# Altium integrated library Atmel Microcontroller 8-Bit Automotive AVR.IntLib: 187 symbols (part 8 of 9)
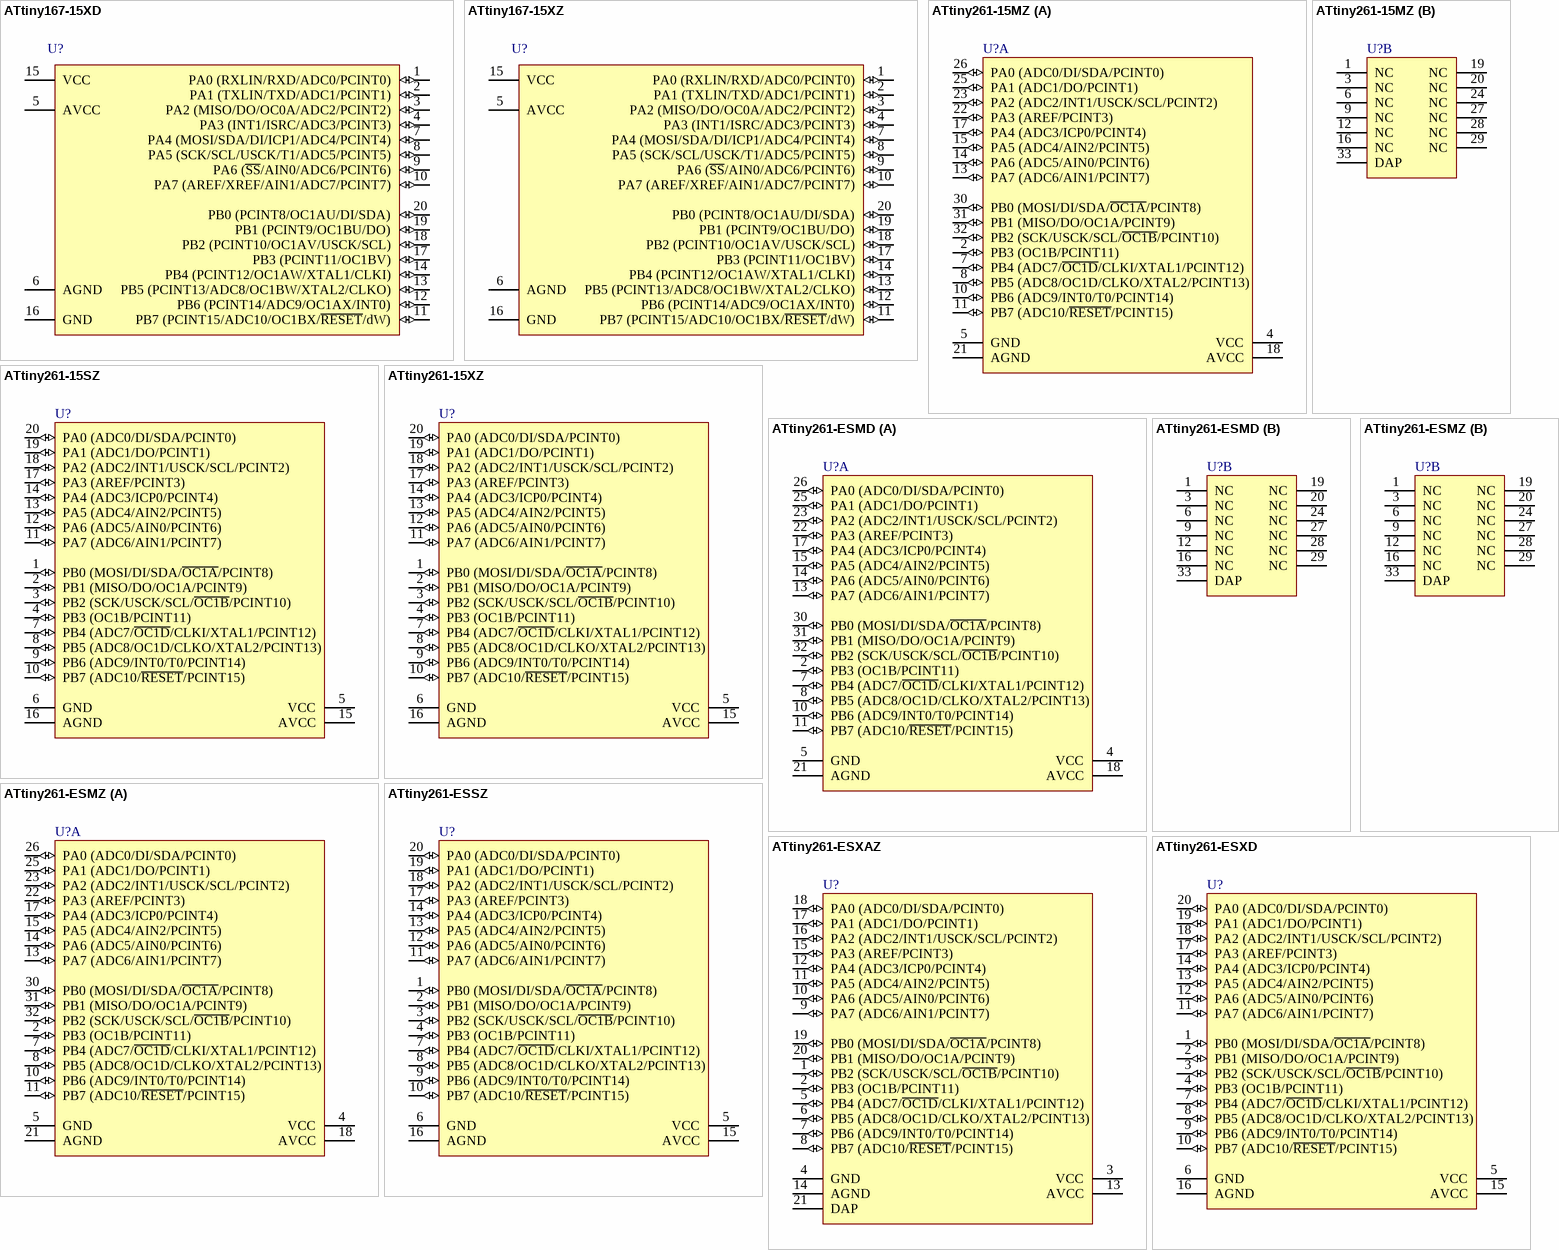
[diagram p28: symbols ATtiny167-15XD to ATtiny261-ESXD]

## ATtiny261-15MZ
designator U?
8-bit Automotive AVR Microcontroller, 2KB Flash, 128 Bytes EEPROM, 128 Bytes SRAM, Automotive Grade (-40°C to +125°C), 32-Pin VQFN; Published: 1-Apr-2010; DatasheetVersion: revD, Nov-2009; PackageVersion: revG, Nov-2008; PackageReference: 32PN; Publisher: Altium Limited; PackageDescription: 32-Pin Quad Flat No-Lead, 5 x 5 mm Body,  0.5 mm Pitch (QFN); Supplier 1: Digi-Key; Supplier Part Number 1: ATTINY261-15MZ-ND; Supplier 2: Mouser; Supplier Part Number 2: 556-ATTINY261-15MZ; Code_JEDEC: MO-220-VHHD-2; ComponentLink1Description: Manufacturer Link; ComponentLink1URL: http://www.atmel.com/products/avr/default.asp?; ComponentLink2Description: ATiny261/461/861 Datasheet; ComponentLink2URL: http://www.atmel.com/dyn/resources/prod_documents/doc7753.pdf; ComponentLink3Description: ATiny261/461/861 Summary; ComponentLink3URL: http://www.atmel.com/dyn/resources/prod_documents/7753S.pdf; ComponentLink4Description: Atmel.com Home; ComponentLink4URL: http://www.atmel.com
footprint 32PN_N (QFN, 32-Leads, Body 5x5mm, Pitch 0.5mm, IPC Medium Density)
footprint 32PN_L (QFN, 32-Leads, Body 5x5mm, Pitch 0.5mm, IPC High Density)
footprint 32PN_M (QFN, 32-Leads, Body 5x5mm, Pitch 0.5mm, IPC Low Density)
part A pins: 2 PB3 (OC1B/PCINT11) (io), 4 VCC (power), 5 GND (power), 7 PB4 (ADC7/~{OC1D}/CLKI/XTAL1/PCINT12) (io), 8 PB5 (ADC8/OC1D/CLKO/XTAL2/PCINT13) (io), 10 PB6 (ADC9/INT0/T0/PCINT14) (io), 11 PB7 (ADC10/~{RESET}/PCINT15) (io), 13 PA7 (ADC6/AIN1/PCINT7) (io), 14 PA6 (ADC5/AIN0/PCINT6) (io), 15 PA5 (ADC4/AIN2/PCINT5) (io), 17 PA4 (ADC3/ICP0/PCINT4) (io), 18 AVCC (power), 21 AGND (power), 22 PA3 (AREF/PCINT3) (io), 23 PA2 (ADC2/INT1/USCK/SCL/PCINT2) (io), 25 PA1 (ADC1/DO/PCINT1) (io), 26 PA0 (ADC0/DI/SDA/PCINT0) (io), 30 PB0 (MOSI/DI/SDA/~{OC1A}/PCINT8) (io), 31 PB1 (MISO/DO/OC1A/PCINT9) (io), 32 PB2 (SCK/USCK/SCL/~{OC1B}/PCINT10) (io)
part B pins: 1 NC, 3 NC, 6 NC, 9 NC, 12 NC, 16 NC, 19 NC, 20 NC, 24 NC, 27 NC, 28 NC, 29 NC, 33 DAP (power)

## ATtiny261-15SZ
designator U?
8-bit Automotive AVR Microcontroller, 2KB Flash, 128 Bytes EEPROM, 128 Bytes SRAM, Automotive Grade (-40°C to +125°C), 20-Pin SOIC; Published: 1-Apr-2010; DatasheetVersion: revD, Nov-2009; PackageVersion: 2009; PackageReference: 20TG; Publisher: Altium Limited; PackageDescription: 20-pin, 0.300” Wide, Plastic Gull-Wing Small Outline (EIAJ SOIC); Supplier 1: Digi-Key; Supplier Part Number 1: ATTINY261-15SZ-ND; Supplier 2: Mouser; Supplier Part Number 2: 556-ATTINY261-15SZ; Code_JEDEC: MS-013-AC; Code_IPC: SOIC127P1030-20; ComponentLink1Description: Manufacturer Link; ComponentLink1URL: http://www.atmel.com/products/avr/default.asp?; ComponentLink2Description: ATiny261/461/861 Datasheet; ComponentLink2URL: http://www.atmel.com/dyn/resources/prod_documents/doc7753.pdf; ComponentLink3Description: ATiny261/461/861 Summary; ComponentLink3URL: http://www.atmel.com/dyn/resources/prod_documents/7753S.pdf; ComponentLink4Description: Atmel.com Home; ComponentLink4URL: http://www.atmel.com
footprint 20TG_N (SOIC, 20-Leads, Body 12.8x7.5mm, Pitch 1.27mm, IPC Medium Density)
footprint 20TG_L (SOIC, 20-Leads, Body 12.8x7.5mm, Pitch 1.27mm, IPC High Density)
footprint 20TG_M (SOIC, 20-Leads, Body 12.8x7.5mm, Pitch 1.27mm, IPC Low Density)
pins: 1 PB0 (MOSI/DI/SDA/~{OC1A}/PCINT8) (io), 2 PB1 (MISO/DO/OC1A/PCINT9) (io), 3 PB2 (SCK/USCK/SCL/~{OC1B}/PCINT10) (io), 4 PB3 (OC1B/PCINT11) (io), 5 VCC (power), 6 GND (power), 7 PB4 (ADC7/~{OC1D}/CLKI/XTAL1/PCINT12) (io), 8 PB5 (ADC8/OC1D/CLKO/XTAL2/PCINT13) (io), 9 PB6 (ADC9/INT0/T0/PCINT14) (io), 10 PB7 (ADC10/~{RESET}/PCINT15) (io), 11 PA7 (ADC6/AIN1/PCINT7) (io), 12 PA6 (ADC5/AIN0/PCINT6) (io), 13 PA5 (ADC4/AIN2/PCINT5) (io), 14 PA4 (ADC3/ICP0/PCINT4) (io), 15 AVCC (power), 16 AGND (power), 17 PA3 (AREF/PCINT3) (io), 18 PA2 (ADC2/INT1/USCK/SCL/PCINT2) (io), 19 PA1 (ADC1/DO/PCINT1) (io), 20 PA0 (ADC0/DI/SDA/PCINT0) (io)

## ATtiny261-15XZ
designator U?
8-bit Automotive AVR Microcontroller, 2KB Flash, 128 Bytes EEPROM, 128 Bytes SRAM, Automotive Grade (-40°C to +125°C), 20-Pin TSSOP; Published: 1-Apr-2010; DatasheetVersion: revD, Nov-2009; PackageVersion: revA, Dec-2007; PackageReference: 6G; Publisher: Altium Limited; PackageDescription: 20-Lead, 4.4 x 6.5 mm Body, 0.65 mm Pitch, Lead Length: 0.6 mm, Thin Shrink Small Outline Package (TSSOP); Supplier 1: Digi-Key; Supplier Part Number 1: ATTINY261-15XZ-ND; Supplier 2: Mouser; Supplier Part Number 2: 556-ATTINY261-15XZ; Code_JEDEC: MO-153-AC; ComponentLink1Description: Manufacturer Link; ComponentLink1URL: http://www.atmel.com/products/avr/default.asp?; ComponentLink2Description: ATiny261/461/861 Datasheet; ComponentLink2URL: http://www.atmel.com/dyn/resources/prod_documents/doc7753.pdf; ComponentLink3Description: ATiny261/461/861 Summary; ComponentLink3URL: http://www.atmel.com/dyn/resources/prod_documents/7753S.pdf; ComponentLink4Description: Atmel.com Home; ComponentLink4URL: http://www.atmel.com
footprint 6G_N (TSOP, 20-Leads, Body 6.5x4.4mm, Pitch 0.65mm, IPC Medium Density)
footprint 6G_L (TSOP, 20-Leads, Body 6.5x4.4mm, Pitch 0.65mm, IPC High Density)
footprint 6G_M (TSOP, 20-Leads, Body 6.5x4.4mm, Pitch 0.65mm, IPC Low Density)
pins: 1 PB0 (MOSI/DI/SDA/~{OC1A}/PCINT8) (io), 2 PB1 (MISO/DO/OC1A/PCINT9) (io), 3 PB2 (SCK/USCK/SCL/~{OC1B}/PCINT10) (io), 4 PB3 (OC1B/PCINT11) (io), 5 VCC (power), 6 GND (power), 7 PB4 (ADC7/~{OC1D}/CLKI/XTAL1/PCINT12) (io), 8 PB5 (ADC8/OC1D/CLKO/XTAL2/PCINT13) (io), 9 PB6 (ADC9/INT0/T0/PCINT14) (io), 10 PB7 (ADC10/~{RESET}/PCINT15) (io), 11 PA7 (ADC6/AIN1/PCINT7) (io), 12 PA6 (ADC5/AIN0/PCINT6) (io), 13 PA5 (ADC4/AIN2/PCINT5) (io), 14 PA4 (ADC3/ICP0/PCINT4) (io), 15 AVCC (power), 16 AGND (power), 17 PA3 (AREF/PCINT3) (io), 18 PA2 (ADC2/INT1/USCK/SCL/PCINT2) (io), 19 PA1 (ADC1/DO/PCINT1) (io), 20 PA0 (ADC0/DI/SDA/PCINT0) (io)

## ATtiny261-ESMD
designator U?
8-bit Automotive AVR Microcontroller, 2KB Flash, 128 Bytes EEPROM, 128 Bytes SRAM, Extended Grade (-40°C to +150°C), 32-Pin VQFN; Published: 1-Apr-2010; DatasheetVersion: revD, Nov-2009; PackageVersion: revG, Nov-2008; PackageReference: 32PN; Publisher: Altium Limited; PackageDescription: 32-Pin Quad Flat No-Lead, 5 x 5 mm Body,  0.5 mm Pitch (QFN); Code_JEDEC: MO-220-VHHD-2; ComponentLink1Description: Manufacturer Link; ComponentLink1URL: http://www.atmel.com/products/avr/default.asp?; ComponentLink2Description: ATiny261/461/861 Datasheet; ComponentLink2URL: http://www.atmel.com/dyn/resources/prod_documents/doc7753.pdf; ComponentLink3Description: ATiny261/461/861 Summary; ComponentLink3URL: http://www.atmel.com/dyn/resources/prod_documents/7753S.pdf; ComponentLink4Description: ATiny261/461/861 Appendix; ComponentLink4URL: http://www.atmel.com/dyn/resources/prod_documents/doc7793.pdf; ComponentLink5Description: Atmel.com Home; ComponentLink5URL: http://www.atmel.com
footprint 32PN_N (QFN, 32-Leads, Body 5x5mm, Pitch 0.5mm, IPC Medium Density)
footprint 32PN_L (QFN, 32-Leads, Body 5x5mm, Pitch 0.5mm, IPC High Density)
footprint 32PN_M (QFN, 32-Leads, Body 5x5mm, Pitch 0.5mm, IPC Low Density)
part A pins: 2 PB3 (OC1B/PCINT11) (io), 4 VCC (power), 5 GND (power), 7 PB4 (ADC7/~{OC1D}/CLKI/XTAL1/PCINT12) (io), 8 PB5 (ADC8/OC1D/CLKO/XTAL2/PCINT13) (io), 10 PB6 (ADC9/INT0/T0/PCINT14) (io), 11 PB7 (ADC10/~{RESET}/PCINT15) (io), 13 PA7 (ADC6/AIN1/PCINT7) (io), 14 PA6 (ADC5/AIN0/PCINT6) (io), 15 PA5 (ADC4/AIN2/PCINT5) (io), 17 PA4 (ADC3/ICP0/PCINT4) (io), 18 AVCC (power), 21 AGND (power), 22 PA3 (AREF/PCINT3) (io), 23 PA2 (ADC2/INT1/USCK/SCL/PCINT2) (io), 25 PA1 (ADC1/DO/PCINT1) (io), 26 PA0 (ADC0/DI/SDA/PCINT0) (io), 30 PB0 (MOSI/DI/SDA/~{OC1A}/PCINT8) (io), 31 PB1 (MISO/DO/OC1A/PCINT9) (io), 32 PB2 (SCK/USCK/SCL/~{OC1B}/PCINT10) (io)
part B pins: 1 NC, 3 NC, 6 NC, 9 NC, 12 NC, 16 NC, 19 NC, 20 NC, 24 NC, 27 NC, 28 NC, 29 NC, 33 DAP (power)

## ATtiny261-ESMZ
designator U?
8-bit Automotive AVR Microcontroller, 2KB Flash, 128 Bytes EEPROM, 128 Bytes SRAM, Automotive Grade (-40°C to +125°C), 32-Pin VQFN, Engineering Sample; Published: 1-Apr-2010; DatasheetVersion: revD, Nov-2009; PackageVersion: revG, Nov-2008; PackageReference: 32PN; Publisher: Altium Limited; PackageDescription: 32-Pin Quad Flat No-Lead, 5 x 5 mm Body,  0.5 mm Pitch (QFN); Code_JEDEC: MO-220-VHHD-2; ComponentLink1Description: Manufacturer Link; ComponentLink1URL: http://www.atmel.com/products/avr/default.asp?; ComponentLink2Description: ATiny261/461/861 Datasheet; ComponentLink2URL: http://www.atmel.com/dyn/resources/prod_documents/doc7753.pdf; ComponentLink3Description: ATiny261/461/861 Summary; ComponentLink3URL: http://www.atmel.com/dyn/resources/prod_documents/7753S.pdf; ComponentLink4Description: Atmel.com Home; ComponentLink4URL: http://www.atmel.com
footprint 32PN_N (QFN, 32-Leads, Body 5x5mm, Pitch 0.5mm, IPC Medium Density)
footprint 32PN_L (QFN, 32-Leads, Body 5x5mm, Pitch 0.5mm, IPC High Density)
footprint 32PN_M (QFN, 32-Leads, Body 5x5mm, Pitch 0.5mm, IPC Low Density)
part A pins: 2 PB3 (OC1B/PCINT11) (io), 4 VCC (power), 5 GND (power), 7 PB4 (ADC7/~{OC1D}/CLKI/XTAL1/PCINT12) (io), 8 PB5 (ADC8/OC1D/CLKO/XTAL2/PCINT13) (io), 10 PB6 (ADC9/INT0/T0/PCINT14) (io), 11 PB7 (ADC10/~{RESET}/PCINT15) (io), 13 PA7 (ADC6/AIN1/PCINT7) (io), 14 PA6 (ADC5/AIN0/PCINT6) (io), 15 PA5 (ADC4/AIN2/PCINT5) (io), 17 PA4 (ADC3/ICP0/PCINT4) (io), 18 AVCC (power), 21 AGND (power), 22 PA3 (AREF/PCINT3) (io), 23 PA2 (ADC2/INT1/USCK/SCL/PCINT2) (io), 25 PA1 (ADC1/DO/PCINT1) (io), 26 PA0 (ADC0/DI/SDA/PCINT0) (io), 30 PB0 (MOSI/DI/SDA/~{OC1A}/PCINT8) (io), 31 PB1 (MISO/DO/OC1A/PCINT9) (io), 32 PB2 (SCK/USCK/SCL/~{OC1B}/PCINT10) (io)
part B pins: 1 NC, 3 NC, 6 NC, 9 NC, 12 NC, 16 NC, 19 NC, 20 NC, 24 NC, 27 NC, 28 NC, 29 NC, 33 DAP (power)

## ATtiny261-ESSZ
designator U?
8-bit Automotive AVR Microcontroller, 2KB Flash, 128 Bytes EEPROM, 128 Bytes SRAM, Automotive Grade (-40°C to +125°C), 20-Pin SOIC, Engineering Sample; Published: 1-Apr-2010; DatasheetVersion: revD, Nov-2009; PackageVersion: 2009; PackageReference: 20TG; Publisher: Altium Limited; PackageDescription: 20-pin, 0.300” Wide, Plastic Gull-Wing Small Outline (EIAJ SOIC); Code_JEDEC: MS-013-AC; Code_IPC: SOIC127P1030-20; ComponentLink1Description: Manufacturer Link; ComponentLink1URL: http://www.atmel.com/products/avr/default.asp?; ComponentLink2Description: ATiny261/461/861 Datasheet; ComponentLink2URL: http://www.atmel.com/dyn/resources/prod_documents/doc7753.pdf; ComponentLink3Description: ATiny261/461/861 Summary; ComponentLink3URL: http://www.atmel.com/dyn/resources/prod_documents/7753S.pdf; ComponentLink4Description: Atmel.com Home; ComponentLink4URL: http://www.atmel.com
footprint 20TG_N (SOIC, 20-Leads, Body 12.8x7.5mm, Pitch 1.27mm, IPC Medium Density)
footprint 20TG_L (SOIC, 20-Leads, Body 12.8x7.5mm, Pitch 1.27mm, IPC High Density)
footprint 20TG_M (SOIC, 20-Leads, Body 12.8x7.5mm, Pitch 1.27mm, IPC Low Density)
pins: 1 PB0 (MOSI/DI/SDA/~{OC1A}/PCINT8) (io), 2 PB1 (MISO/DO/OC1A/PCINT9) (io), 3 PB2 (SCK/USCK/SCL/~{OC1B}/PCINT10) (io), 4 PB3 (OC1B/PCINT11) (io), 5 VCC (power), 6 GND (power), 7 PB4 (ADC7/~{OC1D}/CLKI/XTAL1/PCINT12) (io), 8 PB5 (ADC8/OC1D/CLKO/XTAL2/PCINT13) (io), 9 PB6 (ADC9/INT0/T0/PCINT14) (io), 10 PB7 (ADC10/~{RESET}/PCINT15) (io), 11 PA7 (ADC6/AIN1/PCINT7) (io), 12 PA6 (ADC5/AIN0/PCINT6) (io), 13 PA5 (ADC4/AIN2/PCINT5) (io), 14 PA4 (ADC3/ICP0/PCINT4) (io), 15 AVCC (power), 16 AGND (power), 17 PA3 (AREF/PCINT3) (io), 18 PA2 (ADC2/INT1/USCK/SCL/PCINT2) (io), 19 PA1 (ADC1/DO/PCINT1) (io), 20 PA0 (ADC0/DI/SDA/PCINT0) (io)

## ATtiny261-ESXAZ
designator U?
8-bit Automotive AVR Microcontroller, 2KB Flash, 128 Bytes EEPROM, 128 Bytes SRAM, Automotive Grade (-40°C to +125°C), 20-Pin QFN, Engineering Sample; Published: 1-Apr-2010; DatasheetVersion: revD, Nov-2009; PackageVersion: revG, Jul-2007; PackageReference: 20PC; Publisher: Altium Limited; PackageDescription: 20-Lead, 4 x 4 x 0.8 mm Body, 0.50 mm Pitch, Quad Flat No-Lead Package (QFN); Code_JEDEC: MO-220WGGD-5; ComponentLink1Description: Manufacturer Link; ComponentLink1URL: http://www.atmel.com/products/avr/default.asp?; ComponentLink2Description: ATiny261/461/861 Datasheet; ComponentLink2URL: http://www.atmel.com/dyn/resources/prod_documents/doc7753.pdf; ComponentLink3Description: Atmel.com Home; ComponentLink3URL: http://www.atmel.com
footprint 20PC_N (QFN, 20-Leads, Body 4x4mm, Pitch 0.5mm, IPC Medium Density)
footprint 20PC_L (QFN, 20-Leads, Body 4x4mm, Pitch 0.5mm, IPC High Density)
footprint 20PC_M (QFN, 20-Leads, Body 4x4mm, Pitch 0.5mm, IPC Low Density)
pins: 1 PB2 (SCK/USCK/SCL/~{OC1B}/PCINT10) (io), 2 PB3 (OC1B/PCINT11) (io), 3 VCC (power), 4 GND (power), 5 PB4 (ADC7/~{OC1D}/CLKI/XTAL1/PCINT12) (io), 6 PB5 (ADC8/OC1D/CLKO/XTAL2/PCINT13) (io), 7 PB6 (ADC9/INT0/T0/PCINT14) (io), 8 PB7 (ADC10/~{RESET}/PCINT15) (io), 9 PA7 (ADC6/AIN1/PCINT7) (io), 10 PA6 (ADC5/AIN0/PCINT6) (io), 11 PA5 (ADC4/AIN2/PCINT5) (io), 12 PA4 (ADC3/ICP0/PCINT4) (io), 13 AVCC (power), 14 AGND (power), 15 PA3 (AREF/PCINT3) (io), 16 PA2 (ADC2/INT1/USCK/SCL/PCINT2) (io), 17 PA1 (ADC1/DO/PCINT1) (io), 18 PA0 (ADC0/DI/SDA/PCINT0) (io), 19 PB0 (MOSI/DI/SDA/~{OC1A}/PCINT8) (io), 20 PB1 (MISO/DO/OC1A/PCINT9) (io), 21 DAP (power)

## ATtiny261-ESXD
designator U?
8-bit Automotive AVR Microcontroller, 2KB Flash, 128 Bytes EEPROM, 128 Bytes SRAM, Extended Grade (-40°C to +150°C), 20-Pin TSSOP; Published: 1-Apr-2010; DatasheetVersion: revD, Nov-2009; PackageVersion: revA, Dec-2007; PackageReference: 6G; Publisher: Altium Limited; PackageDescription: 20-Lead, 4.4 x 6.5 mm Body, 0.65 mm Pitch, Lead Length: 0.6 mm, Thin Shrink Small Outline Package (TSSOP); Code_JEDEC: MO-153-AC; ComponentLink1Description: Manufacturer Link; ComponentLink1URL: http://www.atmel.com/products/avr/default.asp?; ComponentLink2Description: ATiny261/461/861 Datasheet; ComponentLink2URL: http://www.atmel.com/dyn/resources/prod_documents/doc7753.pdf; ComponentLink3Description: ATiny261/461/861 Summary; ComponentLink3URL: http://www.atmel.com/dyn/resources/prod_documents/7753S.pdf; ComponentLink4Description: ATiny261/461/861 Appendix; ComponentLink4URL: http://www.atmel.com/dyn/resources/prod_documents/doc7793.pdf; ComponentLink5Description: Atmel.com Home; ComponentLink5URL: http://www.atmel.com
footprint 6G_N (TSOP, 20-Leads, Body 6.5x4.4mm, Pitch 0.65mm, IPC Medium Density)
footprint 6G_L (TSOP, 20-Leads, Body 6.5x4.4mm, Pitch 0.65mm, IPC High Density)
footprint 6G_M (TSOP, 20-Leads, Body 6.5x4.4mm, Pitch 0.65mm, IPC Low Density)
pins: 1 PB0 (MOSI/DI/SDA/~{OC1A}/PCINT8) (io), 2 PB1 (MISO/DO/OC1A/PCINT9) (io), 3 PB2 (SCK/USCK/SCL/~{OC1B}/PCINT10) (io), 4 PB3 (OC1B/PCINT11) (io), 5 VCC (power), 6 GND (power), 7 PB4 (ADC7/~{OC1D}/CLKI/XTAL1/PCINT12) (io), 8 PB5 (ADC8/OC1D/CLKO/XTAL2/PCINT13) (io), 9 PB6 (ADC9/INT0/T0/PCINT14) (io), 10 PB7 (ADC10/~{RESET}/PCINT15) (io), 11 PA7 (ADC6/AIN1/PCINT7) (io), 12 PA6 (ADC5/AIN0/PCINT6) (io), 13 PA5 (ADC4/AIN2/PCINT5) (io), 14 PA4 (ADC3/ICP0/PCINT4) (io), 15 AVCC (power), 16 AGND (power), 17 PA3 (AREF/PCINT3) (io), 18 PA2 (ADC2/INT1/USCK/SCL/PCINT2) (io), 19 PA1 (ADC1/DO/PCINT1) (io), 20 PA0 (ADC0/DI/SDA/PCINT0) (io)

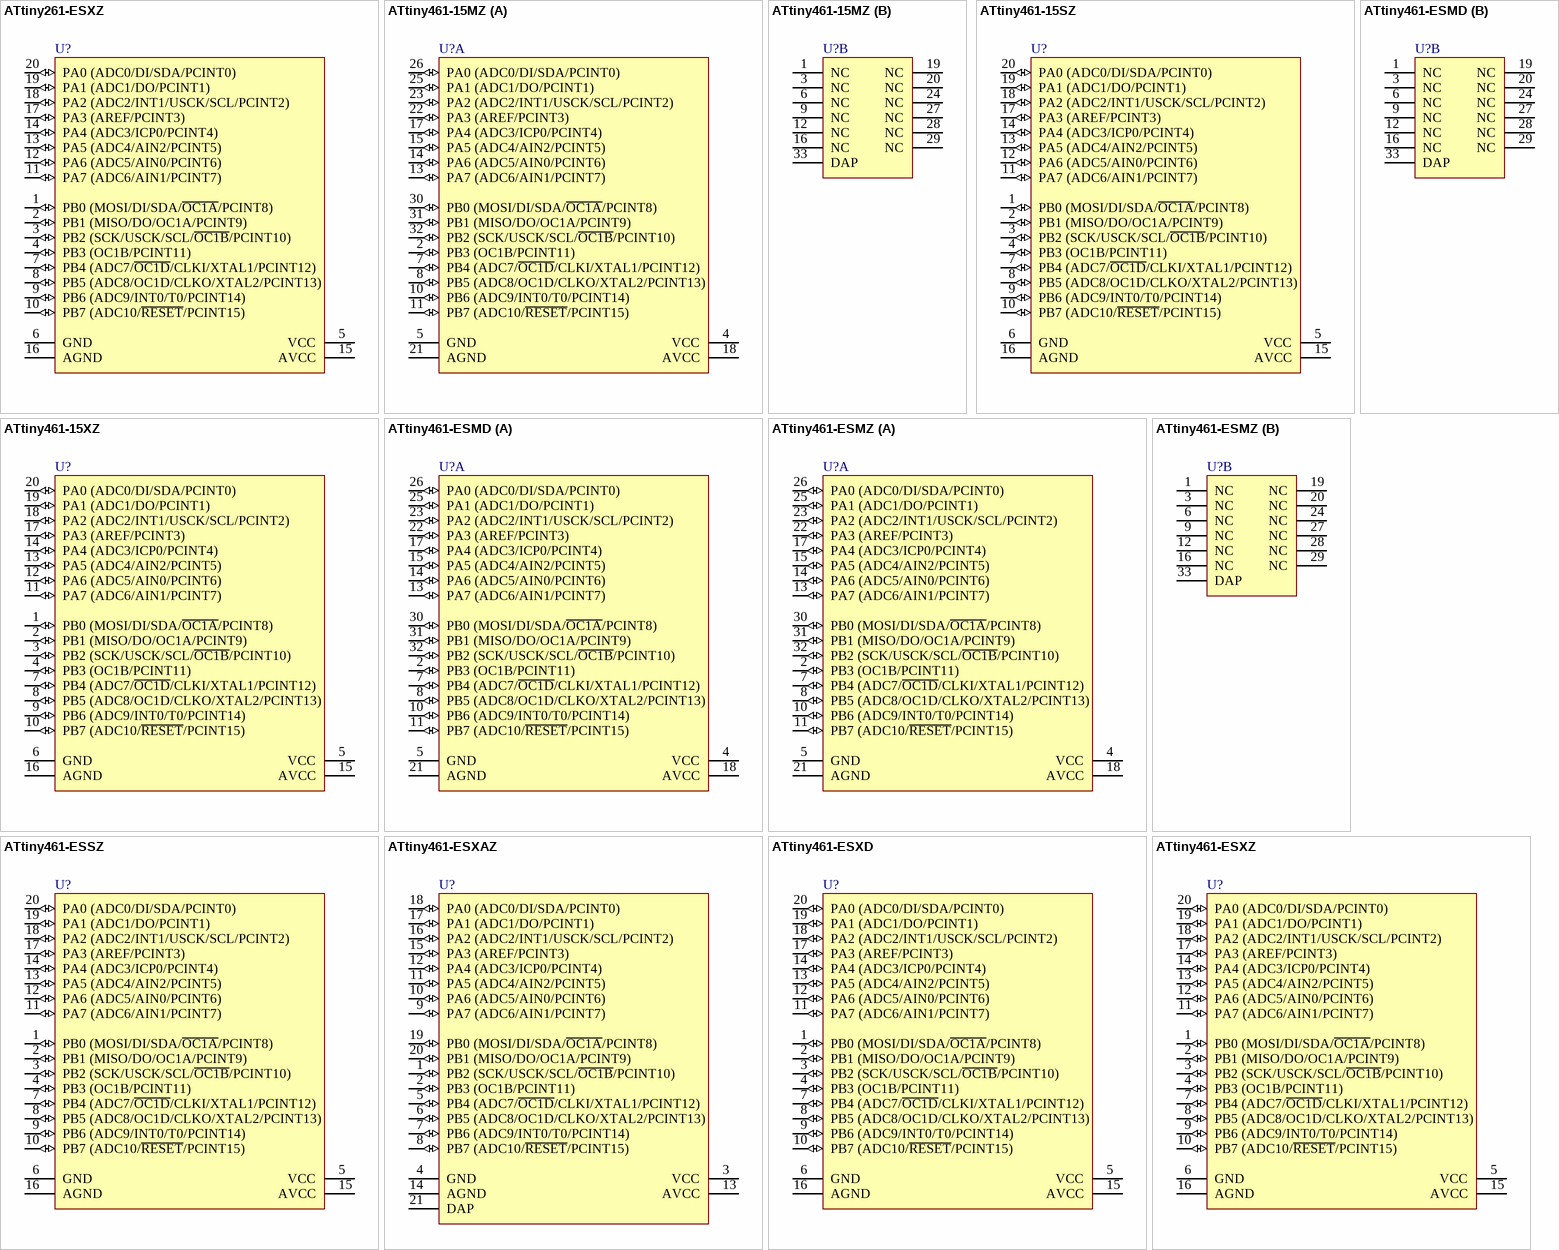
[diagram p20: symbols ATtiny261-ESXZ to ATtiny461-ESXZ]

## ATtiny261-ESXZ
designator U?
8-bit Automotive AVR Microcontroller, 2KB Flash, 128 Bytes EEPROM, 128 Bytes SRAM, Automotive Grade (-40°C to +125°C), 20-Pin TSSOP, Engineering Sample; Published: 1-Apr-2010; DatasheetVersion: revD, Nov-2009; PackageVersion: revA, Dec-2007; PackageReference: 6G; Publisher: Altium Limited; PackageDescription: 20-Lead, 4.4 x 6.5 mm Body, 0.65 mm Pitch, Lead Length: 0.6 mm, Thin Shrink Small Outline Package (TSSOP); Code_JEDEC: MO-153-AC; ComponentLink1Description: Manufacturer Link; ComponentLink1URL: http://www.atmel.com/products/avr/default.asp?; ComponentLink2Description: ATiny261/461/861 Datasheet; ComponentLink2URL: http://www.atmel.com/dyn/resources/prod_documents/doc7753.pdf; ComponentLink3Description: ATiny261/461/861 Summary; ComponentLink3URL: http://www.atmel.com/dyn/resources/prod_documents/7753S.pdf; ComponentLink4Description: Atmel.com Home; ComponentLink4URL: http://www.atmel.com
footprint 6G_N (TSOP, 20-Leads, Body 6.5x4.4mm, Pitch 0.65mm, IPC Medium Density)
footprint 6G_L (TSOP, 20-Leads, Body 6.5x4.4mm, Pitch 0.65mm, IPC High Density)
footprint 6G_M (TSOP, 20-Leads, Body 6.5x4.4mm, Pitch 0.65mm, IPC Low Density)
pins: 1 PB0 (MOSI/DI/SDA/~{OC1A}/PCINT8) (io), 2 PB1 (MISO/DO/OC1A/PCINT9) (io), 3 PB2 (SCK/USCK/SCL/~{OC1B}/PCINT10) (io), 4 PB3 (OC1B/PCINT11) (io), 5 VCC (power), 6 GND (power), 7 PB4 (ADC7/~{OC1D}/CLKI/XTAL1/PCINT12) (io), 8 PB5 (ADC8/OC1D/CLKO/XTAL2/PCINT13) (io), 9 PB6 (ADC9/INT0/T0/PCINT14) (io), 10 PB7 (ADC10/~{RESET}/PCINT15) (io), 11 PA7 (ADC6/AIN1/PCINT7) (io), 12 PA6 (ADC5/AIN0/PCINT6) (io), 13 PA5 (ADC4/AIN2/PCINT5) (io), 14 PA4 (ADC3/ICP0/PCINT4) (io), 15 AVCC (power), 16 AGND (power), 17 PA3 (AREF/PCINT3) (io), 18 PA2 (ADC2/INT1/USCK/SCL/PCINT2) (io), 19 PA1 (ADC1/DO/PCINT1) (io), 20 PA0 (ADC0/DI/SDA/PCINT0) (io)

## ATtiny461-15MZ
designator U?
8-bit Automotive AVR Microcontroller, 4KB Flash, 256 Bytes EEPROM, 256 Bytes SRAM, Automotive Grade (-40°C to +125°C), 32-Pin VQFN; Published: 1-Apr-2010; DatasheetVersion: revD, Nov-2009; PackageVersion: revG, Nov-2008; PackageReference: 32PN; Publisher: Altium Limited; PackageDescription: 32-Pin Quad Flat No-Lead, 5 x 5 mm Body,  0.5 mm Pitch (QFN); Supplier 1: Digi-Key; Supplier Part Number 1: ATTINY461-15MZ-ND; Supplier 2: Mouser; Supplier Part Number 2: 556-ATTINY461-15MZ; Code_JEDEC: MO-220-VHHD-2; ComponentLink1Description: Manufacturer Link; ComponentLink1URL: http://www.atmel.com/products/avr/default.asp?; ComponentLink2Description: ATiny261/461/861 Datasheet; ComponentLink2URL: http://www.atmel.com/dyn/resources/prod_documents/doc7753.pdf; ComponentLink3Description: ATiny261/461/861 Summary; ComponentLink3URL: http://www.atmel.com/dyn/resources/prod_documents/7753S.pdf; ComponentLink4Description: Atmel.com Home; ComponentLink4URL: http://www.atmel.com
footprint 32PN_N (QFN, 32-Leads, Body 5x5mm, Pitch 0.5mm, IPC Medium Density)
footprint 32PN_L (QFN, 32-Leads, Body 5x5mm, Pitch 0.5mm, IPC High Density)
footprint 32PN_M (QFN, 32-Leads, Body 5x5mm, Pitch 0.5mm, IPC Low Density)
part A pins: 2 PB3 (OC1B/PCINT11) (io), 4 VCC (power), 5 GND (power), 7 PB4 (ADC7/~{OC1D}/CLKI/XTAL1/PCINT12) (io), 8 PB5 (ADC8/OC1D/CLKO/XTAL2/PCINT13) (io), 10 PB6 (ADC9/INT0/T0/PCINT14) (io), 11 PB7 (ADC10/~{RESET}/PCINT15) (io), 13 PA7 (ADC6/AIN1/PCINT7) (io), 14 PA6 (ADC5/AIN0/PCINT6) (io), 15 PA5 (ADC4/AIN2/PCINT5) (io), 17 PA4 (ADC3/ICP0/PCINT4) (io), 18 AVCC (power), 21 AGND (power), 22 PA3 (AREF/PCINT3) (io), 23 PA2 (ADC2/INT1/USCK/SCL/PCINT2) (io), 25 PA1 (ADC1/DO/PCINT1) (io), 26 PA0 (ADC0/DI/SDA/PCINT0) (io), 30 PB0 (MOSI/DI/SDA/~{OC1A}/PCINT8) (io), 31 PB1 (MISO/DO/OC1A/PCINT9) (io), 32 PB2 (SCK/USCK/SCL/~{OC1B}/PCINT10) (io)
part B pins: 1 NC, 3 NC, 6 NC, 9 NC, 12 NC, 16 NC, 19 NC, 20 NC, 24 NC, 27 NC, 28 NC, 29 NC, 33 DAP (power)

## ATtiny461-15SZ
designator U?
8-bit Automotive AVR Microcontroller, 4KB Flash, 256 Bytes EEPROM, 256 Bytes SRAM, Automotive Grade (-40°C to +125°C), 20-Pin SOIC; Published: 1-Apr-2010; DatasheetVersion: revD, Nov-2009; PackageVersion: 2009; PackageReference: 20TG; Publisher: Altium Limited; PackageDescription: 20-pin, 0.300” Wide, Plastic Gull-Wing Small Outline (EIAJ SOIC); Supplier 1: Digi-Key; Supplier Part Number 1: ATTINY461-15SZ-ND; Supplier 2: Mouser; Supplier Part Number 2: 556-ATTINY461-15SZ; Code_JEDEC: MS-013-AC; Code_IPC: SOIC127P1030-20; ComponentLink1Description: Manufacturer Link; ComponentLink1URL: http://www.atmel.com/products/avr/default.asp?; ComponentLink2Description: ATiny261/461/861 Datasheet; ComponentLink2URL: http://www.atmel.com/dyn/resources/prod_documents/doc7753.pdf; ComponentLink3Description: ATiny261/461/861 Summary; ComponentLink3URL: http://www.atmel.com/dyn/resources/prod_documents/7753S.pdf; ComponentLink4Description: Atmel.com Home; ComponentLink4URL: http://www.atmel.com
footprint 20TG_N (SOIC, 20-Leads, Body 12.8x7.5mm, Pitch 1.27mm, IPC Medium Density)
footprint 20TG_L (SOIC, 20-Leads, Body 12.8x7.5mm, Pitch 1.27mm, IPC High Density)
footprint 20TG_M (SOIC, 20-Leads, Body 12.8x7.5mm, Pitch 1.27mm, IPC Low Density)
pins: 1 PB0 (MOSI/DI/SDA/~{OC1A}/PCINT8) (io), 2 PB1 (MISO/DO/OC1A/PCINT9) (io), 3 PB2 (SCK/USCK/SCL/~{OC1B}/PCINT10) (io), 4 PB3 (OC1B/PCINT11) (io), 5 VCC (power), 6 GND (power), 7 PB4 (ADC7/~{OC1D}/CLKI/XTAL1/PCINT12) (io), 8 PB5 (ADC8/OC1D/CLKO/XTAL2/PCINT13) (io), 9 PB6 (ADC9/INT0/T0/PCINT14) (io), 10 PB7 (ADC10/~{RESET}/PCINT15) (io), 11 PA7 (ADC6/AIN1/PCINT7) (io), 12 PA6 (ADC5/AIN0/PCINT6) (io), 13 PA5 (ADC4/AIN2/PCINT5) (io), 14 PA4 (ADC3/ICP0/PCINT4) (io), 15 AVCC (power), 16 AGND (power), 17 PA3 (AREF/PCINT3) (io), 18 PA2 (ADC2/INT1/USCK/SCL/PCINT2) (io), 19 PA1 (ADC1/DO/PCINT1) (io), 20 PA0 (ADC0/DI/SDA/PCINT0) (io)

## ATtiny461-15XZ
designator U?
8-bit Automotive AVR Microcontroller, 4KB Flash, 256 Bytes EEPROM, 256 Bytes SRAM, Automotive Grade (-40°C to +125°C), 20-Pin TSSOP; Published: 1-Apr-2010; DatasheetVersion: revD, Nov-2009; PackageVersion: revA, Dec-2007; PackageReference: 6G; Publisher: Altium Limited; PackageDescription: 20-Lead, 4.4 x 6.5 mm Body, 0.65 mm Pitch, Lead Length: 0.6 mm, Thin Shrink Small Outline Package (TSSOP); Supplier 1: Digi-Key; Supplier Part Number 1: ATTINY461-15XZ-ND; Supplier 2: Mouser; Supplier Part Number 2: 556-ATTINY461-15XZ; Code_JEDEC: MO-153-AC; ComponentLink1Description: Manufacturer Link; ComponentLink1URL: http://www.atmel.com/products/avr/default.asp?; ComponentLink2Description: ATiny261/461/861 Datasheet; ComponentLink2URL: http://www.atmel.com/dyn/resources/prod_documents/doc7753.pdf; ComponentLink3Description: ATiny261/461/861 Summary; ComponentLink3URL: http://www.atmel.com/dyn/resources/prod_documents/7753S.pdf; ComponentLink4Description: Atmel.com Home; ComponentLink4URL: http://www.atmel.com
footprint 6G_N (TSOP, 20-Leads, Body 6.5x4.4mm, Pitch 0.65mm, IPC Medium Density)
footprint 6G_L (TSOP, 20-Leads, Body 6.5x4.4mm, Pitch 0.65mm, IPC High Density)
footprint 6G_M (TSOP, 20-Leads, Body 6.5x4.4mm, Pitch 0.65mm, IPC Low Density)
pins: 1 PB0 (MOSI/DI/SDA/~{OC1A}/PCINT8) (io), 2 PB1 (MISO/DO/OC1A/PCINT9) (io), 3 PB2 (SCK/USCK/SCL/~{OC1B}/PCINT10) (io), 4 PB3 (OC1B/PCINT11) (io), 5 VCC (power), 6 GND (power), 7 PB4 (ADC7/~{OC1D}/CLKI/XTAL1/PCINT12) (io), 8 PB5 (ADC8/OC1D/CLKO/XTAL2/PCINT13) (io), 9 PB6 (ADC9/INT0/T0/PCINT14) (io), 10 PB7 (ADC10/~{RESET}/PCINT15) (io), 11 PA7 (ADC6/AIN1/PCINT7) (io), 12 PA6 (ADC5/AIN0/PCINT6) (io), 13 PA5 (ADC4/AIN2/PCINT5) (io), 14 PA4 (ADC3/ICP0/PCINT4) (io), 15 AVCC (power), 16 AGND (power), 17 PA3 (AREF/PCINT3) (io), 18 PA2 (ADC2/INT1/USCK/SCL/PCINT2) (io), 19 PA1 (ADC1/DO/PCINT1) (io), 20 PA0 (ADC0/DI/SDA/PCINT0) (io)

## ATtiny461-ESMD
designator U?
8-bit Automotive AVR Microcontroller, 4KB Flash, 256 Bytes EEPROM, 256 Bytes SRAM, Extended Grade (-40°C to +150°C), 32-Pin VQFN; Published: 1-Apr-2010; DatasheetVersion: revD, Nov-2009; PackageVersion: revG, Nov-2008; PackageReference: 32PN; Publisher: Altium Limited; PackageDescription: 32-Pin Quad Flat No-Lead, 5 x 5 mm Body,  0.5 mm Pitch (QFN); Code_JEDEC: MO-220-VHHD-2; ComponentLink1Description: Manufacturer Link; ComponentLink1URL: http://www.atmel.com/products/avr/default.asp?; ComponentLink2Description: ATiny261/461/861 Datasheet; ComponentLink2URL: http://www.atmel.com/dyn/resources/prod_documents/doc7753.pdf; ComponentLink3Description: ATiny261/461/861 Summary; ComponentLink3URL: http://www.atmel.com/dyn/resources/prod_documents/7753S.pdf; ComponentLink4Description: ATiny261/461/861 Appendix; ComponentLink4URL: http://www.atmel.com/dyn/resources/prod_documents/doc7793.pdf; ComponentLink5Description: Atmel.com Home; ComponentLink5URL: http://www.atmel.com
footprint 32PN_N (QFN, 32-Leads, Body 5x5mm, Pitch 0.5mm, IPC Medium Density)
footprint 32PN_L (QFN, 32-Leads, Body 5x5mm, Pitch 0.5mm, IPC High Density)
footprint 32PN_M (QFN, 32-Leads, Body 5x5mm, Pitch 0.5mm, IPC Low Density)
part A pins: 2 PB3 (OC1B/PCINT11) (io), 4 VCC (power), 5 GND (power), 7 PB4 (ADC7/~{OC1D}/CLKI/XTAL1/PCINT12) (io), 8 PB5 (ADC8/OC1D/CLKO/XTAL2/PCINT13) (io), 10 PB6 (ADC9/INT0/T0/PCINT14) (io), 11 PB7 (ADC10/~{RESET}/PCINT15) (io), 13 PA7 (ADC6/AIN1/PCINT7) (io), 14 PA6 (ADC5/AIN0/PCINT6) (io), 15 PA5 (ADC4/AIN2/PCINT5) (io), 17 PA4 (ADC3/ICP0/PCINT4) (io), 18 AVCC (power), 21 AGND (power), 22 PA3 (AREF/PCINT3) (io), 23 PA2 (ADC2/INT1/USCK/SCL/PCINT2) (io), 25 PA1 (ADC1/DO/PCINT1) (io), 26 PA0 (ADC0/DI/SDA/PCINT0) (io), 30 PB0 (MOSI/DI/SDA/~{OC1A}/PCINT8) (io), 31 PB1 (MISO/DO/OC1A/PCINT9) (io), 32 PB2 (SCK/USCK/SCL/~{OC1B}/PCINT10) (io)
part B pins: 1 NC, 3 NC, 6 NC, 9 NC, 12 NC, 16 NC, 19 NC, 20 NC, 24 NC, 27 NC, 28 NC, 29 NC, 33 DAP (power)

## ATtiny461-ESMZ
designator U?
8-bit Automotive AVR Microcontroller, 4KB Flash, 256 Bytes EEPROM, 256 Bytes SRAM, Automotive Grade (-40°C to +125°C), 32-Pin VQFN, Engineering Sample; Published: 1-Apr-2010; DatasheetVersion: revD, Nov-2009; PackageVersion: revG, Nov-2008; PackageReference: 32PN; Publisher: Altium Limited; PackageDescription: 32-Pin Quad Flat No-Lead, 5 x 5 mm Body,  0.5 mm Pitch (QFN); Code_JEDEC: MO-220-VHHD-2; ComponentLink1Description: Manufacturer Link; ComponentLink1URL: http://www.atmel.com/products/avr/default.asp?; ComponentLink2Description: ATiny261/461/861 Datasheet; ComponentLink2URL: http://www.atmel.com/dyn/resources/prod_documents/doc7753.pdf; ComponentLink3Description: ATiny261/461/861 Summary; ComponentLink3URL: http://www.atmel.com/dyn/resources/prod_documents/7753S.pdf; ComponentLink4Description: Atmel.com Home; ComponentLink4URL: http://www.atmel.com
footprint 32PN_N (QFN, 32-Leads, Body 5x5mm, Pitch 0.5mm, IPC Medium Density)
footprint 32PN_L (QFN, 32-Leads, Body 5x5mm, Pitch 0.5mm, IPC High Density)
footprint 32PN_M (QFN, 32-Leads, Body 5x5mm, Pitch 0.5mm, IPC Low Density)
part A pins: 2 PB3 (OC1B/PCINT11) (io), 4 VCC (power), 5 GND (power), 7 PB4 (ADC7/~{OC1D}/CLKI/XTAL1/PCINT12) (io), 8 PB5 (ADC8/OC1D/CLKO/XTAL2/PCINT13) (io), 10 PB6 (ADC9/INT0/T0/PCINT14) (io), 11 PB7 (ADC10/~{RESET}/PCINT15) (io), 13 PA7 (ADC6/AIN1/PCINT7) (io), 14 PA6 (ADC5/AIN0/PCINT6) (io), 15 PA5 (ADC4/AIN2/PCINT5) (io), 17 PA4 (ADC3/ICP0/PCINT4) (io), 18 AVCC (power), 21 AGND (power), 22 PA3 (AREF/PCINT3) (io), 23 PA2 (ADC2/INT1/USCK/SCL/PCINT2) (io), 25 PA1 (ADC1/DO/PCINT1) (io), 26 PA0 (ADC0/DI/SDA/PCINT0) (io), 30 PB0 (MOSI/DI/SDA/~{OC1A}/PCINT8) (io), 31 PB1 (MISO/DO/OC1A/PCINT9) (io), 32 PB2 (SCK/USCK/SCL/~{OC1B}/PCINT10) (io)
part B pins: 1 NC, 3 NC, 6 NC, 9 NC, 12 NC, 16 NC, 19 NC, 20 NC, 24 NC, 27 NC, 28 NC, 29 NC, 33 DAP (power)

## ATtiny461-ESSZ
designator U?
8-bit Automotive AVR Microcontroller, 4KB Flash, 256 Bytes EEPROM, 256 Bytes SRAM, Automotive Grade (-40°C to +125°C), 20-Pin SOIC, Engineering Sample; Published: 1-Apr-2010; DatasheetVersion: revD, Nov-2009; PackageVersion: 2009; PackageReference: 20TG; Publisher: Altium Limited; PackageDescription: 20-pin, 0.300” Wide, Plastic Gull-Wing Small Outline (EIAJ SOIC); Code_JEDEC: MS-013-AC; Code_IPC: SOIC127P1030-20; ComponentLink1Description: Manufacturer Link; ComponentLink1URL: http://www.atmel.com/products/avr/default.asp?; ComponentLink2Description: ATiny261/461/861 Datasheet; ComponentLink2URL: http://www.atmel.com/dyn/resources/prod_documents/doc7753.pdf; ComponentLink3Description: ATiny261/461/861 Summary; ComponentLink3URL: http://www.atmel.com/dyn/resources/prod_documents/7753S.pdf; ComponentLink4Description: Atmel.com Home; ComponentLink4URL: http://www.atmel.com
footprint 20TG_N (SOIC, 20-Leads, Body 12.8x7.5mm, Pitch 1.27mm, IPC Medium Density)
footprint 20TG_L (SOIC, 20-Leads, Body 12.8x7.5mm, Pitch 1.27mm, IPC High Density)
footprint 20TG_M (SOIC, 20-Leads, Body 12.8x7.5mm, Pitch 1.27mm, IPC Low Density)
pins: 1 PB0 (MOSI/DI/SDA/~{OC1A}/PCINT8) (io), 2 PB1 (MISO/DO/OC1A/PCINT9) (io), 3 PB2 (SCK/USCK/SCL/~{OC1B}/PCINT10) (io), 4 PB3 (OC1B/PCINT11) (io), 5 VCC (power), 6 GND (power), 7 PB4 (ADC7/~{OC1D}/CLKI/XTAL1/PCINT12) (io), 8 PB5 (ADC8/OC1D/CLKO/XTAL2/PCINT13) (io), 9 PB6 (ADC9/INT0/T0/PCINT14) (io), 10 PB7 (ADC10/~{RESET}/PCINT15) (io), 11 PA7 (ADC6/AIN1/PCINT7) (io), 12 PA6 (ADC5/AIN0/PCINT6) (io), 13 PA5 (ADC4/AIN2/PCINT5) (io), 14 PA4 (ADC3/ICP0/PCINT4) (io), 15 AVCC (power), 16 AGND (power), 17 PA3 (AREF/PCINT3) (io), 18 PA2 (ADC2/INT1/USCK/SCL/PCINT2) (io), 19 PA1 (ADC1/DO/PCINT1) (io), 20 PA0 (ADC0/DI/SDA/PCINT0) (io)

## ATtiny461-ESXAZ
designator U?
8-bit Automotive AVR Microcontroller, 4KB Flash, 256 Bytes EEPROM, 256 Bytes SRAM, Automotive Grade (-40°C to +125°C), 20-Pin QFN, Engineering Sample; Published: 1-Apr-2010; DatasheetVersion: revD, Nov-2009; PackageVersion: revG, Jul-2007; PackageReference: 20PC; Publisher: Altium Limited; PackageDescription: 20-Lead, 4 x 4 x 0.8 mm Body, 0.50 mm Pitch, Quad Flat No-Lead Package (QFN); Code_JEDEC: MO-220WGGD-5; ComponentLink1Description: Manufacturer Link; ComponentLink1URL: http://www.atmel.com/products/avr/default.asp?; ComponentLink2Description: ATiny261/461/861 Datasheet; ComponentLink2URL: http://www.atmel.com/dyn/resources/prod_documents/doc7753.pdf; ComponentLink3Description: Atmel.com Home; ComponentLink3URL: http://www.atmel.com
footprint 20PC_N (QFN, 20-Leads, Body 4x4mm, Pitch 0.5mm, IPC Medium Density)
footprint 20PC_L (QFN, 20-Leads, Body 4x4mm, Pitch 0.5mm, IPC High Density)
footprint 20PC_M (QFN, 20-Leads, Body 4x4mm, Pitch 0.5mm, IPC Low Density)
pins: 1 PB2 (SCK/USCK/SCL/~{OC1B}/PCINT10) (io), 2 PB3 (OC1B/PCINT11) (io), 3 VCC (power), 4 GND (power), 5 PB4 (ADC7/~{OC1D}/CLKI/XTAL1/PCINT12) (io), 6 PB5 (ADC8/OC1D/CLKO/XTAL2/PCINT13) (io), 7 PB6 (ADC9/INT0/T0/PCINT14) (io), 8 PB7 (ADC10/~{RESET}/PCINT15) (io), 9 PA7 (ADC6/AIN1/PCINT7) (io), 10 PA6 (ADC5/AIN0/PCINT6) (io), 11 PA5 (ADC4/AIN2/PCINT5) (io), 12 PA4 (ADC3/ICP0/PCINT4) (io), 13 AVCC (power), 14 AGND (power), 15 PA3 (AREF/PCINT3) (io), 16 PA2 (ADC2/INT1/USCK/SCL/PCINT2) (io), 17 PA1 (ADC1/DO/PCINT1) (io), 18 PA0 (ADC0/DI/SDA/PCINT0) (io), 19 PB0 (MOSI/DI/SDA/~{OC1A}/PCINT8) (io), 20 PB1 (MISO/DO/OC1A/PCINT9) (io), 21 DAP (power)

## ATtiny461-ESXD
designator U?
8-bit Automotive AVR Microcontroller, 4KB Flash, 256 Bytes EEPROM, 256 Bytes SRAM, Extended Grade (-40°C to +150°C), 20-Pin TSSOP; Published: 1-Apr-2010; DatasheetVersion: revD, Nov-2009; PackageVersion: revA, Dec-2007; PackageReference: 6G; Publisher: Altium Limited; PackageDescription: 20-Lead, 4.4 x 6.5 mm Body, 0.65 mm Pitch, Lead Length: 0.6 mm, Thin Shrink Small Outline Package (TSSOP); Code_JEDEC: MO-153-AC; ComponentLink1Description: Manufacturer Link; ComponentLink1URL: http://www.atmel.com/products/avr/default.asp?; ComponentLink2Description: ATiny261/461/861 Datasheet; ComponentLink2URL: http://www.atmel.com/dyn/resources/prod_documents/doc7753.pdf; ComponentLink3Description: ATiny261/461/861 Summary; ComponentLink3URL: http://www.atmel.com/dyn/resources/prod_documents/7753S.pdf; ComponentLink4Description: ATiny261/461/861 Appendix; ComponentLink4URL: http://www.atmel.com/dyn/resources/prod_documents/doc7793.pdf; ComponentLink5Description: Atmel.com Home; ComponentLink5URL: http://www.atmel.com
footprint 6G_N (TSOP, 20-Leads, Body 6.5x4.4mm, Pitch 0.65mm, IPC Medium Density)
footprint 6G_L (TSOP, 20-Leads, Body 6.5x4.4mm, Pitch 0.65mm, IPC High Density)
footprint 6G_M (TSOP, 20-Leads, Body 6.5x4.4mm, Pitch 0.65mm, IPC Low Density)
pins: 1 PB0 (MOSI/DI/SDA/~{OC1A}/PCINT8) (io), 2 PB1 (MISO/DO/OC1A/PCINT9) (io), 3 PB2 (SCK/USCK/SCL/~{OC1B}/PCINT10) (io), 4 PB3 (OC1B/PCINT11) (io), 5 VCC (power), 6 GND (power), 7 PB4 (ADC7/~{OC1D}/CLKI/XTAL1/PCINT12) (io), 8 PB5 (ADC8/OC1D/CLKO/XTAL2/PCINT13) (io), 9 PB6 (ADC9/INT0/T0/PCINT14) (io), 10 PB7 (ADC10/~{RESET}/PCINT15) (io), 11 PA7 (ADC6/AIN1/PCINT7) (io), 12 PA6 (ADC5/AIN0/PCINT6) (io), 13 PA5 (ADC4/AIN2/PCINT5) (io), 14 PA4 (ADC3/ICP0/PCINT4) (io), 15 AVCC (power), 16 AGND (power), 17 PA3 (AREF/PCINT3) (io), 18 PA2 (ADC2/INT1/USCK/SCL/PCINT2) (io), 19 PA1 (ADC1/DO/PCINT1) (io), 20 PA0 (ADC0/DI/SDA/PCINT0) (io)

## ATtiny461-ESXZ
designator U?
8-bit Automotive AVR Microcontroller, 4KB Flash, 256 Bytes EEPROM, 256 Bytes SRAM, Automotive Grade (-40°C to +125°C), 20-Pin TSSOP, Engineering Sample; Published: 1-Apr-2010; DatasheetVersion: revD, Nov-2009; PackageVersion: revA, Dec-2007; PackageReference: 6G; Publisher: Altium Limited; PackageDescription: 20-Lead, 4.4 x 6.5 mm Body, 0.65 mm Pitch, Lead Length: 0.6 mm, Thin Shrink Small Outline Package (TSSOP); Code_JEDEC: MO-153-AC; ComponentLink1Description: Manufacturer Link; ComponentLink1URL: http://www.atmel.com/products/avr/default.asp?; ComponentLink2Description: ATiny261/461/861 Datasheet; ComponentLink2URL: http://www.atmel.com/dyn/resources/prod_documents/doc7753.pdf; ComponentLink3Description: ATiny261/461/861 Summary; ComponentLink3URL: http://www.atmel.com/dyn/resources/prod_documents/7753S.pdf; ComponentLink4Description: Atmel.com Home; ComponentLink4URL: http://www.atmel.com
footprint 6G_N (TSOP, 20-Leads, Body 6.5x4.4mm, Pitch 0.65mm, IPC Medium Density)
footprint 6G_L (TSOP, 20-Leads, Body 6.5x4.4mm, Pitch 0.65mm, IPC High Density)
footprint 6G_M (TSOP, 20-Leads, Body 6.5x4.4mm, Pitch 0.65mm, IPC Low Density)
pins: 1 PB0 (MOSI/DI/SDA/~{OC1A}/PCINT8) (io), 2 PB1 (MISO/DO/OC1A/PCINT9) (io), 3 PB2 (SCK/USCK/SCL/~{OC1B}/PCINT10) (io), 4 PB3 (OC1B/PCINT11) (io), 5 VCC (power), 6 GND (power), 7 PB4 (ADC7/~{OC1D}/CLKI/XTAL1/PCINT12) (io), 8 PB5 (ADC8/OC1D/CLKO/XTAL2/PCINT13) (io), 9 PB6 (ADC9/INT0/T0/PCINT14) (io), 10 PB7 (ADC10/~{RESET}/PCINT15) (io), 11 PA7 (ADC6/AIN1/PCINT7) (io), 12 PA6 (ADC5/AIN0/PCINT6) (io), 13 PA5 (ADC4/AIN2/PCINT5) (io), 14 PA4 (ADC3/ICP0/PCINT4) (io), 15 AVCC (power), 16 AGND (power), 17 PA3 (AREF/PCINT3) (io), 18 PA2 (ADC2/INT1/USCK/SCL/PCINT2) (io), 19 PA1 (ADC1/DO/PCINT1) (io), 20 PA0 (ADC0/DI/SDA/PCINT0) (io)

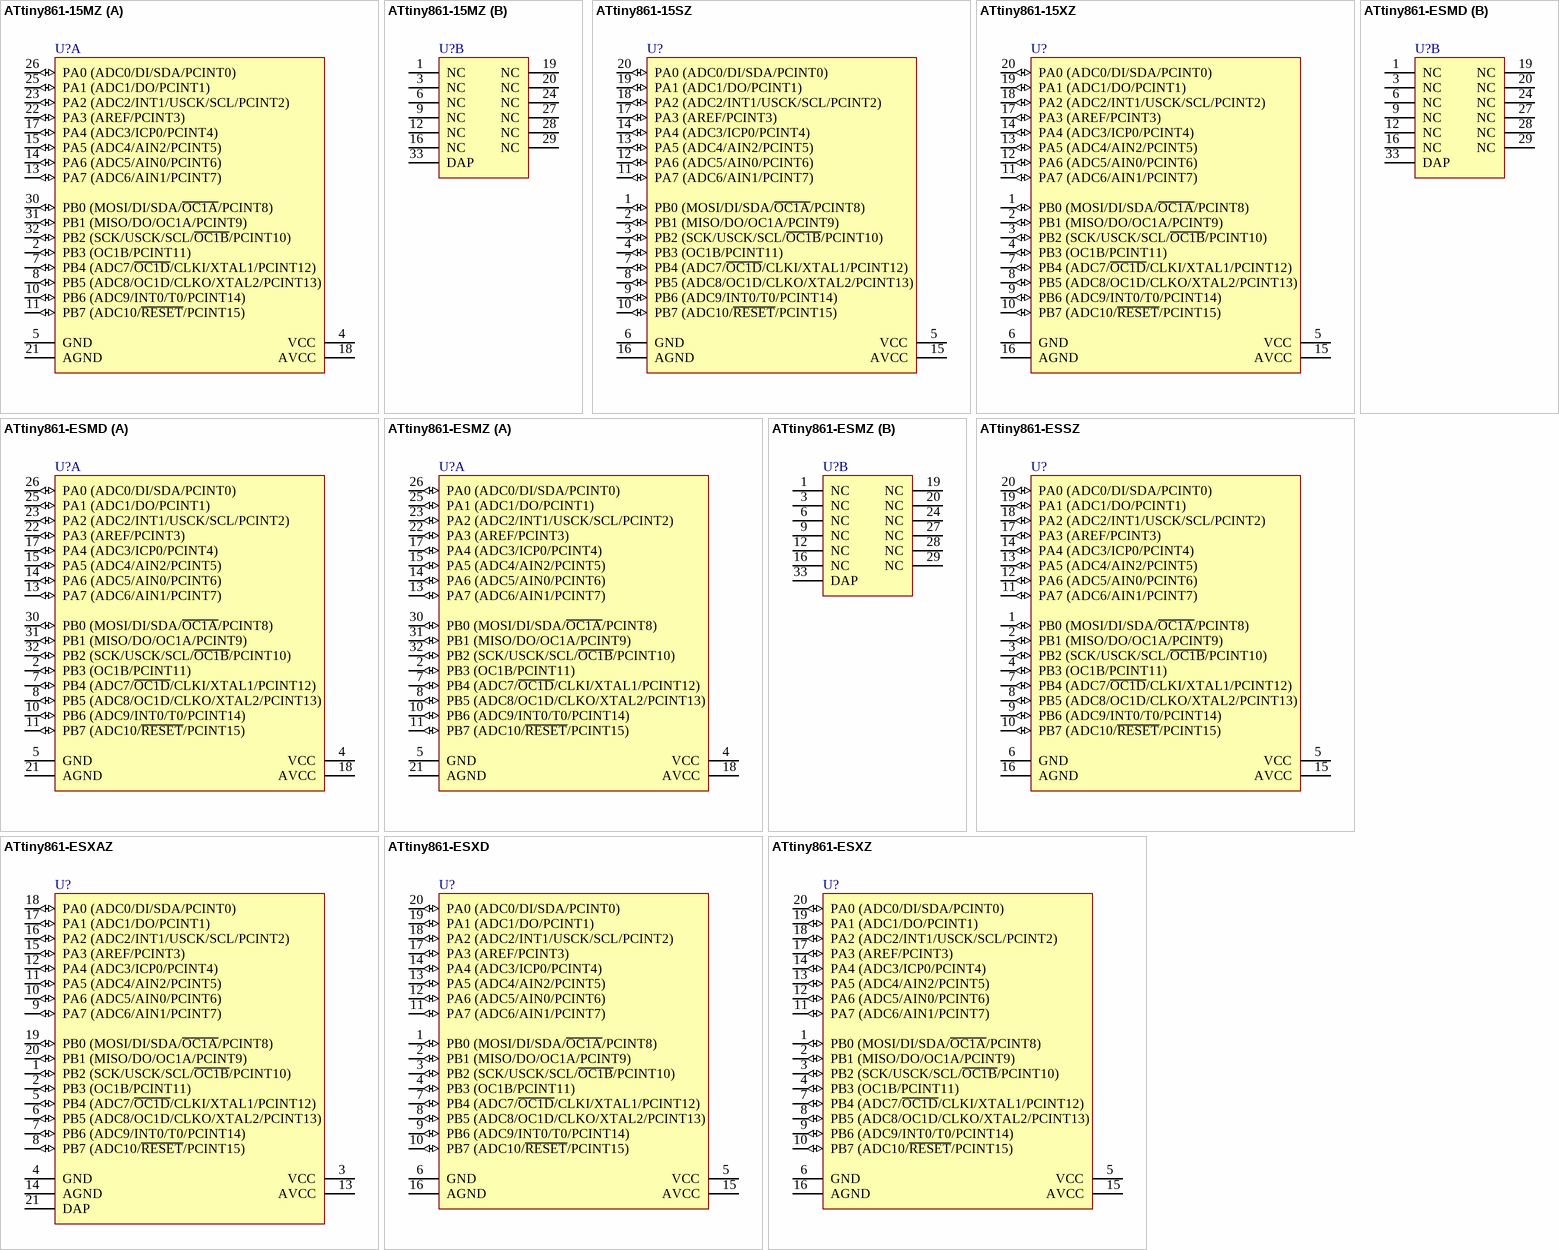
[diagram p21: symbols ATtiny861-15MZ to ATtiny861-ESXZ]

## ATtiny861-15MZ
designator U?
8-bit Automotive AVR Microcontroller, 8KB Flash, 512 Bytes EEPROM, 512 Bytes SRAM, Automotive Grade (-40°C to +125°C), 32-Pin VQFN; Published: 1-Apr-2010; DatasheetVersion: revD, Nov-2009; PackageVersion: revG, Nov-2008; PackageReference: 32PN; Publisher: Altium Limited; PackageDescription: 32-Pin Quad Flat No-Lead, 5 x 5 mm Body,  0.5 mm Pitch (QFN); Supplier 1: Digi-Key; Supplier Part Number 1: ATTINY861-15MZ-ND; Supplier 2: Mouser; Supplier Part Number 2: 556-ATTINY861-15MZ; Code_JEDEC: MO-220-VHHD-2; ComponentLink1Description: Manufacturer Link; ComponentLink1URL: http://www.atmel.com/products/avr/default.asp?; ComponentLink2Description: ATiny261/461/861 Datasheet; ComponentLink2URL: http://www.atmel.com/dyn/resources/prod_documents/doc7753.pdf; ComponentLink3Description: ATiny261/461/861 Summary; ComponentLink3URL: http://www.atmel.com/dyn/resources/prod_documents/7753S.pdf; ComponentLink4Description: Atmel.com Home; ComponentLink4URL: http://www.atmel.com
footprint 32PN_N (QFN, 32-Leads, Body 5x5mm, Pitch 0.5mm, IPC Medium Density)
footprint 32PN_L (QFN, 32-Leads, Body 5x5mm, Pitch 0.5mm, IPC High Density)
footprint 32PN_M (QFN, 32-Leads, Body 5x5mm, Pitch 0.5mm, IPC Low Density)
part A pins: 2 PB3 (OC1B/PCINT11) (io), 4 VCC (power), 5 GND (power), 7 PB4 (ADC7/~{OC1D}/CLKI/XTAL1/PCINT12) (io), 8 PB5 (ADC8/OC1D/CLKO/XTAL2/PCINT13) (io), 10 PB6 (ADC9/INT0/T0/PCINT14) (io), 11 PB7 (ADC10/~{RESET}/PCINT15) (io), 13 PA7 (ADC6/AIN1/PCINT7) (io), 14 PA6 (ADC5/AIN0/PCINT6) (io), 15 PA5 (ADC4/AIN2/PCINT5) (io), 17 PA4 (ADC3/ICP0/PCINT4) (io), 18 AVCC (power), 21 AGND (power), 22 PA3 (AREF/PCINT3) (io), 23 PA2 (ADC2/INT1/USCK/SCL/PCINT2) (io), 25 PA1 (ADC1/DO/PCINT1) (io), 26 PA0 (ADC0/DI/SDA/PCINT0) (io), 30 PB0 (MOSI/DI/SDA/~{OC1A}/PCINT8) (io), 31 PB1 (MISO/DO/OC1A/PCINT9) (io), 32 PB2 (SCK/USCK/SCL/~{OC1B}/PCINT10) (io)
part B pins: 1 NC, 3 NC, 6 NC, 9 NC, 12 NC, 16 NC, 19 NC, 20 NC, 24 NC, 27 NC, 28 NC, 29 NC, 33 DAP (power)

## ATtiny861-15SZ
designator U?
8-bit Automotive AVR Microcontroller, 8KB Flash, 512 Bytes EEPROM, 512 Bytes SRAM, Automotive Grade (-40°C to +125°C), 20-Pin SOIC; Published: 1-Apr-2010; DatasheetVersion: revD, Nov-2009; PackageVersion: 2009; PackageReference: 20TG; Publisher: Altium Limited; PackageDescription: 20-pin, 0.300” Wide, Plastic Gull-Wing Small Outline (EIAJ SOIC); Supplier 1: Digi-Key; Supplier Part Number 1: ATTINY861-15SZ-ND; Supplier 2: Mouser; Supplier Part Number 2: 556-ATTINY861-15SZ; Code_JEDEC: MS-013-AC; Code_IPC: SOIC127P1030-20; ComponentLink1Description: Manufacturer Link; ComponentLink1URL: http://www.atmel.com/products/avr/default.asp?; ComponentLink2Description: ATiny261/461/861 Datasheet; ComponentLink2URL: http://www.atmel.com/dyn/resources/prod_documents/doc7753.pdf; ComponentLink3Description: ATiny261/461/861 Summary; ComponentLink3URL: http://www.atmel.com/dyn/resources/prod_documents/7753S.pdf; ComponentLink4Description: Atmel.com Home; ComponentLink4URL: http://www.atmel.com
footprint 20TG_N (SOIC, 20-Leads, Body 12.8x7.5mm, Pitch 1.27mm, IPC Medium Density)
footprint 20TG_L (SOIC, 20-Leads, Body 12.8x7.5mm, Pitch 1.27mm, IPC High Density)
footprint 20TG_M (SOIC, 20-Leads, Body 12.8x7.5mm, Pitch 1.27mm, IPC Low Density)
pins: 1 PB0 (MOSI/DI/SDA/~{OC1A}/PCINT8) (io), 2 PB1 (MISO/DO/OC1A/PCINT9) (io), 3 PB2 (SCK/USCK/SCL/~{OC1B}/PCINT10) (io), 4 PB3 (OC1B/PCINT11) (io), 5 VCC (power), 6 GND (power), 7 PB4 (ADC7/~{OC1D}/CLKI/XTAL1/PCINT12) (io), 8 PB5 (ADC8/OC1D/CLKO/XTAL2/PCINT13) (io), 9 PB6 (ADC9/INT0/T0/PCINT14) (io), 10 PB7 (ADC10/~{RESET}/PCINT15) (io), 11 PA7 (ADC6/AIN1/PCINT7) (io), 12 PA6 (ADC5/AIN0/PCINT6) (io), 13 PA5 (ADC4/AIN2/PCINT5) (io), 14 PA4 (ADC3/ICP0/PCINT4) (io), 15 AVCC (power), 16 AGND (power), 17 PA3 (AREF/PCINT3) (io), 18 PA2 (ADC2/INT1/USCK/SCL/PCINT2) (io), 19 PA1 (ADC1/DO/PCINT1) (io), 20 PA0 (ADC0/DI/SDA/PCINT0) (io)

## ATtiny861-15XZ
designator U?
8-bit Automotive AVR Microcontroller, 8KB Flash, 512 Bytes EEPROM, 512 Bytes SRAM, Automotive Grade (-40°C to +125°C), 20-Pin TSSOP; Published: 1-Apr-2010; DatasheetVersion: revD, Nov-2009; PackageVersion: revA, Dec-2007; PackageReference: 6G; Publisher: Altium Limited; PackageDescription: 20-Lead, 4.4 x 6.5 mm Body, 0.65 mm Pitch, Lead Length: 0.6 mm, Thin Shrink Small Outline Package (TSSOP); Supplier 1: Digi-Key; Supplier Part Number 1: ATTINY861-15XZ-ND; Supplier 2: Mouser; Supplier Part Number 2: 556-ATTINY861-15XZ; Code_JEDEC: MO-153-AC; ComponentLink1Description: Manufacturer Link; ComponentLink1URL: http://www.atmel.com/products/avr/default.asp?; ComponentLink2Description: ATiny261/461/861 Datasheet; ComponentLink2URL: http://www.atmel.com/dyn/resources/prod_documents/doc7753.pdf; ComponentLink3Description: ATiny261/461/861 Summary; ComponentLink3URL: http://www.atmel.com/dyn/resources/prod_documents/7753S.pdf; ComponentLink4Description: Atmel.com Home; ComponentLink4URL: http://www.atmel.com
footprint 6G_N (TSOP, 20-Leads, Body 6.5x4.4mm, Pitch 0.65mm, IPC Medium Density)
footprint 6G_L (TSOP, 20-Leads, Body 6.5x4.4mm, Pitch 0.65mm, IPC High Density)
footprint 6G_M (TSOP, 20-Leads, Body 6.5x4.4mm, Pitch 0.65mm, IPC Low Density)
pins: 1 PB0 (MOSI/DI/SDA/~{OC1A}/PCINT8) (io), 2 PB1 (MISO/DO/OC1A/PCINT9) (io), 3 PB2 (SCK/USCK/SCL/~{OC1B}/PCINT10) (io), 4 PB3 (OC1B/PCINT11) (io), 5 VCC (power), 6 GND (power), 7 PB4 (ADC7/~{OC1D}/CLKI/XTAL1/PCINT12) (io), 8 PB5 (ADC8/OC1D/CLKO/XTAL2/PCINT13) (io), 9 PB6 (ADC9/INT0/T0/PCINT14) (io), 10 PB7 (ADC10/~{RESET}/PCINT15) (io), 11 PA7 (ADC6/AIN1/PCINT7) (io), 12 PA6 (ADC5/AIN0/PCINT6) (io), 13 PA5 (ADC4/AIN2/PCINT5) (io), 14 PA4 (ADC3/ICP0/PCINT4) (io), 15 AVCC (power), 16 AGND (power), 17 PA3 (AREF/PCINT3) (io), 18 PA2 (ADC2/INT1/USCK/SCL/PCINT2) (io), 19 PA1 (ADC1/DO/PCINT1) (io), 20 PA0 (ADC0/DI/SDA/PCINT0) (io)

## ATtiny861-ESMD
designator U?
8-bit Automotive AVR Microcontroller, 8KB Flash, 512 Bytes EEPROM, 512 Bytes SRAM, Extended Grade (-40°C to +150°C), 32-Pin VQFN; Published: 1-Apr-2010; DatasheetVersion: revD, Nov-2009; PackageVersion: revG, Nov-2008; PackageReference: 32PN; Publisher: Altium Limited; PackageDescription: 32-Pin Quad Flat No-Lead, 5 x 5 mm Body,  0.5 mm Pitch (QFN); Code_JEDEC: MO-220-VHHD-2; ComponentLink1Description: Manufacturer Link; ComponentLink1URL: http://www.atmel.com/products/avr/default.asp?; ComponentLink2Description: ATiny261/461/861 Datasheet; ComponentLink2URL: http://www.atmel.com/dyn/resources/prod_documents/doc7753.pdf; ComponentLink3Description: ATiny261/461/861 Summary; ComponentLink3URL: http://www.atmel.com/dyn/resources/prod_documents/7753S.pdf; ComponentLink4Description: ATiny261/461/861 Appendix; ComponentLink4URL: http://www.atmel.com/dyn/resources/prod_documents/doc7793.pdf; ComponentLink5Description: Atmel.com Home; ComponentLink5URL: http://www.atmel.com
footprint 32PN_N (QFN, 32-Leads, Body 5x5mm, Pitch 0.5mm, IPC Medium Density)
footprint 32PN_L (QFN, 32-Leads, Body 5x5mm, Pitch 0.5mm, IPC High Density)
footprint 32PN_M (QFN, 32-Leads, Body 5x5mm, Pitch 0.5mm, IPC Low Density)
part A pins: 2 PB3 (OC1B/PCINT11) (io), 4 VCC (power), 5 GND (power), 7 PB4 (ADC7/~{OC1D}/CLKI/XTAL1/PCINT12) (io), 8 PB5 (ADC8/OC1D/CLKO/XTAL2/PCINT13) (io), 10 PB6 (ADC9/INT0/T0/PCINT14) (io), 11 PB7 (ADC10/~{RESET}/PCINT15) (io), 13 PA7 (ADC6/AIN1/PCINT7) (io), 14 PA6 (ADC5/AIN0/PCINT6) (io), 15 PA5 (ADC4/AIN2/PCINT5) (io), 17 PA4 (ADC3/ICP0/PCINT4) (io), 18 AVCC (power), 21 AGND (power), 22 PA3 (AREF/PCINT3) (io), 23 PA2 (ADC2/INT1/USCK/SCL/PCINT2) (io), 25 PA1 (ADC1/DO/PCINT1) (io), 26 PA0 (ADC0/DI/SDA/PCINT0) (io), 30 PB0 (MOSI/DI/SDA/~{OC1A}/PCINT8) (io), 31 PB1 (MISO/DO/OC1A/PCINT9) (io), 32 PB2 (SCK/USCK/SCL/~{OC1B}/PCINT10) (io)
part B pins: 1 NC, 3 NC, 6 NC, 9 NC, 12 NC, 16 NC, 19 NC, 20 NC, 24 NC, 27 NC, 28 NC, 29 NC, 33 DAP (power)

## ATtiny861-ESMZ
designator U?
8-bit Automotive AVR Microcontroller, 8KB Flash, 512 Bytes EEPROM, 512 Bytes SRAM, Automotive Grade (-40°C to +125°C), 32-Pin VQFN, Engineering Sample; Published: 1-Apr-2010; DatasheetVersion: revD, Nov-2009; PackageVersion: revG, Nov-2008; PackageReference: 32PN; Publisher: Altium Limited; PackageDescription: 32-Pin Quad Flat No-Lead, 5 x 5 mm Body,  0.5 mm Pitch (QFN); Code_JEDEC: MO-220-VHHD-2; ComponentLink1Description: Manufacturer Link; ComponentLink1URL: http://www.atmel.com/products/avr/default.asp?; ComponentLink2Description: ATiny261/461/861 Datasheet; ComponentLink2URL: http://www.atmel.com/dyn/resources/prod_documents/doc7753.pdf; ComponentLink3Description: ATiny261/461/861 Summary; ComponentLink3URL: http://www.atmel.com/dyn/resources/prod_documents/7753S.pdf; ComponentLink4Description: Atmel.com Home; ComponentLink4URL: http://www.atmel.com
footprint 32PN_N (QFN, 32-Leads, Body 5x5mm, Pitch 0.5mm, IPC Medium Density)
footprint 32PN_L (QFN, 32-Leads, Body 5x5mm, Pitch 0.5mm, IPC High Density)
footprint 32PN_M (QFN, 32-Leads, Body 5x5mm, Pitch 0.5mm, IPC Low Density)
part A pins: 2 PB3 (OC1B/PCINT11) (io), 4 VCC (power), 5 GND (power), 7 PB4 (ADC7/~{OC1D}/CLKI/XTAL1/PCINT12) (io), 8 PB5 (ADC8/OC1D/CLKO/XTAL2/PCINT13) (io), 10 PB6 (ADC9/INT0/T0/PCINT14) (io), 11 PB7 (ADC10/~{RESET}/PCINT15) (io), 13 PA7 (ADC6/AIN1/PCINT7) (io), 14 PA6 (ADC5/AIN0/PCINT6) (io), 15 PA5 (ADC4/AIN2/PCINT5) (io), 17 PA4 (ADC3/ICP0/PCINT4) (io), 18 AVCC (power), 21 AGND (power), 22 PA3 (AREF/PCINT3) (io), 23 PA2 (ADC2/INT1/USCK/SCL/PCINT2) (io), 25 PA1 (ADC1/DO/PCINT1) (io), 26 PA0 (ADC0/DI/SDA/PCINT0) (io), 30 PB0 (MOSI/DI/SDA/~{OC1A}/PCINT8) (io), 31 PB1 (MISO/DO/OC1A/PCINT9) (io), 32 PB2 (SCK/USCK/SCL/~{OC1B}/PCINT10) (io)
part B pins: 1 NC, 3 NC, 6 NC, 9 NC, 12 NC, 16 NC, 19 NC, 20 NC, 24 NC, 27 NC, 28 NC, 29 NC, 33 DAP (power)

## ATtiny861-ESSZ
designator U?
8-bit Automotive AVR Microcontroller, 8KB Flash, 512 Bytes EEPROM, 512 Bytes SRAM, Automotive Grade (-40°C to +125°C), 20-Pin SOIC, Engineering Sample; Published: 1-Apr-2010; DatasheetVersion: revD, Nov-2009; PackageVersion: 2009; PackageReference: 20TG; Publisher: Altium Limited; PackageDescription: 20-pin, 0.300” Wide, Plastic Gull-Wing Small Outline (EIAJ SOIC); Code_JEDEC: MS-013-AC; Code_IPC: SOIC127P1030-20; ComponentLink1Description: Manufacturer Link; ComponentLink1URL: http://www.atmel.com/products/avr/default.asp?; ComponentLink2Description: ATiny261/461/861 Datasheet; ComponentLink2URL: http://www.atmel.com/dyn/resources/prod_documents/doc7753.pdf; ComponentLink3Description: ATiny261/461/861 Summary; ComponentLink3URL: http://www.atmel.com/dyn/resources/prod_documents/7753S.pdf; ComponentLink4Description: Atmel.com Home; ComponentLink4URL: http://www.atmel.com
footprint 20TG_N (SOIC, 20-Leads, Body 12.8x7.5mm, Pitch 1.27mm, IPC Medium Density)
footprint 20TG_L (SOIC, 20-Leads, Body 12.8x7.5mm, Pitch 1.27mm, IPC High Density)
footprint 20TG_M (SOIC, 20-Leads, Body 12.8x7.5mm, Pitch 1.27mm, IPC Low Density)
pins: 1 PB0 (MOSI/DI/SDA/~{OC1A}/PCINT8) (io), 2 PB1 (MISO/DO/OC1A/PCINT9) (io), 3 PB2 (SCK/USCK/SCL/~{OC1B}/PCINT10) (io), 4 PB3 (OC1B/PCINT11) (io), 5 VCC (power), 6 GND (power), 7 PB4 (ADC7/~{OC1D}/CLKI/XTAL1/PCINT12) (io), 8 PB5 (ADC8/OC1D/CLKO/XTAL2/PCINT13) (io), 9 PB6 (ADC9/INT0/T0/PCINT14) (io), 10 PB7 (ADC10/~{RESET}/PCINT15) (io), 11 PA7 (ADC6/AIN1/PCINT7) (io), 12 PA6 (ADC5/AIN0/PCINT6) (io), 13 PA5 (ADC4/AIN2/PCINT5) (io), 14 PA4 (ADC3/ICP0/PCINT4) (io), 15 AVCC (power), 16 AGND (power), 17 PA3 (AREF/PCINT3) (io), 18 PA2 (ADC2/INT1/USCK/SCL/PCINT2) (io), 19 PA1 (ADC1/DO/PCINT1) (io), 20 PA0 (ADC0/DI/SDA/PCINT0) (io)

## ATtiny861-ESXAZ
designator U?
8-bit Automotive AVR Microcontroller, 8KB Flash, 512 Bytes EEPROM, 512 Bytes SRAM, Automotive Grade (-40°C to +125°C), 20-Pin QFN, Engineering Sample; Published: 1-Apr-2010; DatasheetVersion: revD, Nov-2009; PackageVersion: revG, Jul-2007; PackageReference: 20PC; Publisher: Altium Limited; PackageDescription: 20-Lead, 4 x 4 x 0.8 mm Body, 0.50 mm Pitch, Quad Flat No-Lead Package (QFN); Code_JEDEC: MO-220WGGD-5; ComponentLink1Description: Manufacturer Link; ComponentLink1URL: http://www.atmel.com/products/avr/default.asp?; ComponentLink2Description: ATiny261/461/861 Datasheet; ComponentLink2URL: http://www.atmel.com/dyn/resources/prod_documents/doc7753.pdf; ComponentLink3Description: Atmel.com Home; ComponentLink3URL: http://www.atmel.com
footprint 20PC_N (QFN, 20-Leads, Body 4x4mm, Pitch 0.5mm, IPC Medium Density)
footprint 20PC_L (QFN, 20-Leads, Body 4x4mm, Pitch 0.5mm, IPC High Density)
footprint 20PC_M (QFN, 20-Leads, Body 4x4mm, Pitch 0.5mm, IPC Low Density)
pins: 1 PB2 (SCK/USCK/SCL/~{OC1B}/PCINT10) (io), 2 PB3 (OC1B/PCINT11) (io), 3 VCC (power), 4 GND (power), 5 PB4 (ADC7/~{OC1D}/CLKI/XTAL1/PCINT12) (io), 6 PB5 (ADC8/OC1D/CLKO/XTAL2/PCINT13) (io), 7 PB6 (ADC9/INT0/T0/PCINT14) (io), 8 PB7 (ADC10/~{RESET}/PCINT15) (io), 9 PA7 (ADC6/AIN1/PCINT7) (io), 10 PA6 (ADC5/AIN0/PCINT6) (io), 11 PA5 (ADC4/AIN2/PCINT5) (io), 12 PA4 (ADC3/ICP0/PCINT4) (io), 13 AVCC (power), 14 AGND (power), 15 PA3 (AREF/PCINT3) (io), 16 PA2 (ADC2/INT1/USCK/SCL/PCINT2) (io), 17 PA1 (ADC1/DO/PCINT1) (io), 18 PA0 (ADC0/DI/SDA/PCINT0) (io), 19 PB0 (MOSI/DI/SDA/~{OC1A}/PCINT8) (io), 20 PB1 (MISO/DO/OC1A/PCINT9) (io), 21 DAP (power)

## ATtiny861-ESXD
designator U?
8-bit Automotive AVR Microcontroller, 8KB Flash, 512 Bytes EEPROM, 512 Bytes SRAM, Extended Grade (-40°C to +150°C), 20-Pin TSSOP; Published: 1-Apr-2010; DatasheetVersion: revD, Nov-2009; PackageVersion: revA, Dec-2007; PackageReference: 6G; Publisher: Altium Limited; PackageDescription: 20-Lead, 4.4 x 6.5 mm Body, 0.65 mm Pitch, Lead Length: 0.6 mm, Thin Shrink Small Outline Package (TSSOP); Code_JEDEC: MO-153-AC; ComponentLink1Description: Manufacturer Link; ComponentLink1URL: http://www.atmel.com/products/avr/default.asp?; ComponentLink2Description: ATiny261/461/861 Datasheet; ComponentLink2URL: http://www.atmel.com/dyn/resources/prod_documents/doc7753.pdf; ComponentLink3Description: ATiny261/461/861 Summary; ComponentLink3URL: http://www.atmel.com/dyn/resources/prod_documents/7753S.pdf; ComponentLink4Description: ATiny261/461/861 Appendix; ComponentLink4URL: http://www.atmel.com/dyn/resources/prod_documents/doc7793.pdf; ComponentLink5Description: Atmel.com Home; ComponentLink5URL: http://www.atmel.com
footprint 6G_N (TSOP, 20-Leads, Body 6.5x4.4mm, Pitch 0.65mm, IPC Medium Density)
footprint 6G_L (TSOP, 20-Leads, Body 6.5x4.4mm, Pitch 0.65mm, IPC High Density)
footprint 6G_M (TSOP, 20-Leads, Body 6.5x4.4mm, Pitch 0.65mm, IPC Low Density)
pins: 1 PB0 (MOSI/DI/SDA/~{OC1A}/PCINT8) (io), 2 PB1 (MISO/DO/OC1A/PCINT9) (io), 3 PB2 (SCK/USCK/SCL/~{OC1B}/PCINT10) (io), 4 PB3 (OC1B/PCINT11) (io), 5 VCC (power), 6 GND (power), 7 PB4 (ADC7/~{OC1D}/CLKI/XTAL1/PCINT12) (io), 8 PB5 (ADC8/OC1D/CLKO/XTAL2/PCINT13) (io), 9 PB6 (ADC9/INT0/T0/PCINT14) (io), 10 PB7 (ADC10/~{RESET}/PCINT15) (io), 11 PA7 (ADC6/AIN1/PCINT7) (io), 12 PA6 (ADC5/AIN0/PCINT6) (io), 13 PA5 (ADC4/AIN2/PCINT5) (io), 14 PA4 (ADC3/ICP0/PCINT4) (io), 15 AVCC (power), 16 AGND (power), 17 PA3 (AREF/PCINT3) (io), 18 PA2 (ADC2/INT1/USCK/SCL/PCINT2) (io), 19 PA1 (ADC1/DO/PCINT1) (io), 20 PA0 (ADC0/DI/SDA/PCINT0) (io)